# Altium footprint library 0603_LED.PcbLib: 1 footprints
Each footprint in its own frame and in the unit in brackets; x right, y up, seen from the top. Pads: shape width x height; smd on the part's side, far side on the other; paste and mask are expansions set on the pad; w line width, h text height; cw(c..) or ccw(c..) is an arc to the next point about the centre after c.
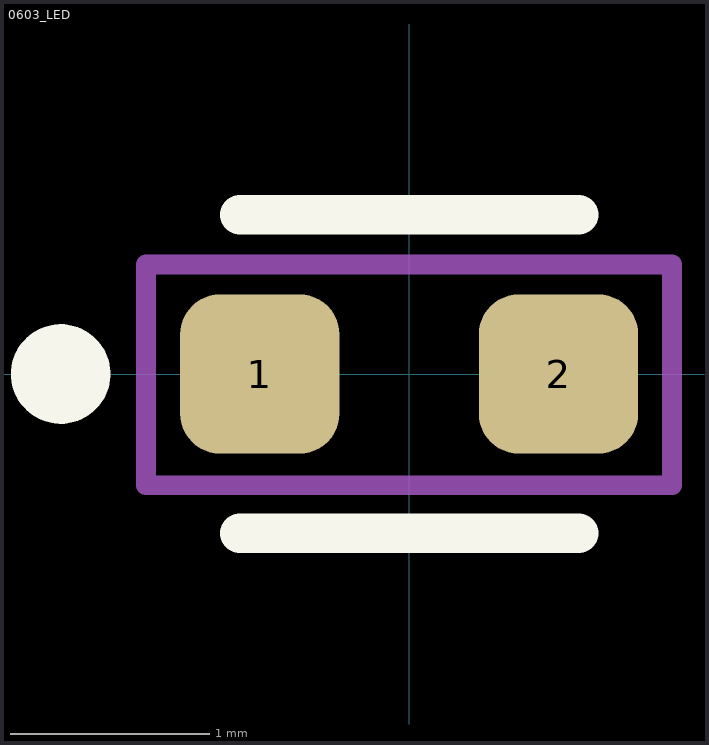
[diagram p0: the footprint, top view; thin cyan lines are the x and y axes]

## 0603_LED [mm]
pads (2):
  rrect50% 0.8x0.8 smd: 1(-0.75,0) 2(0.75,0)
Top Overlay:
  circle w0.25: c-1.75,0 r0.125
  lines w0.2: -0.85,-0.8 0.85,-0.8 ; -0.85,0.8 0.85,0.8
Mechanical 1:
  lines w0.1: -1.321,-0.559 1.321,-0.559 1.321,0.55 -1.321,0.55 -1.321,-0.559
  text ".Designator" at -0.381,-0.193 h1
Top Courtyard:
  text "+" at -0.333,-0.5 h1
3D body "Diode_Lite-On_LTST-C191TBKT_eec.STEP": height 0.65, standoff 0, extent -0.8,-0.4 0.8,0.4